# Altium schematic symbol library M50-3600542.Schlib: 1 symbol
Pins are listed as number, name and electrical type; pins without a type are passive.

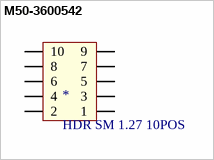
[diagram p0: symbol M50-3600542]

## M50-3600542
designator *, comment HDR SM 1.27 10POS
CONN HDR SM 10POS DUAL .05"
pins: 1, 2, 3, 4, 5, 6, 7, 8, 9, 10